# Altium schematic symbol library ELLIPSE_ARC_TEST.SchLib: 1 symbol
Pins are listed as number, name and electrical type; pins without a type are passive.

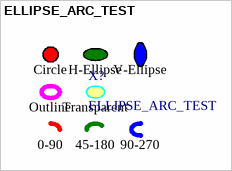
[diagram p0: symbol ELLIPSE_ARC_TEST]

## ELLIPSE_ARC_TEST
designator X?
Test ellipses and elliptical arcs
text: Circle; H-Ellipse; V-Ellipse; Outline; Transparent; 0-90; 45-180; 90-270